# Altium schematic symbol library 2230_TubePitotDeporte_Library_v1.0.0.SchLib: 14 symbols
Pins are listed as number, name and electrical type; pins without a type are passive.

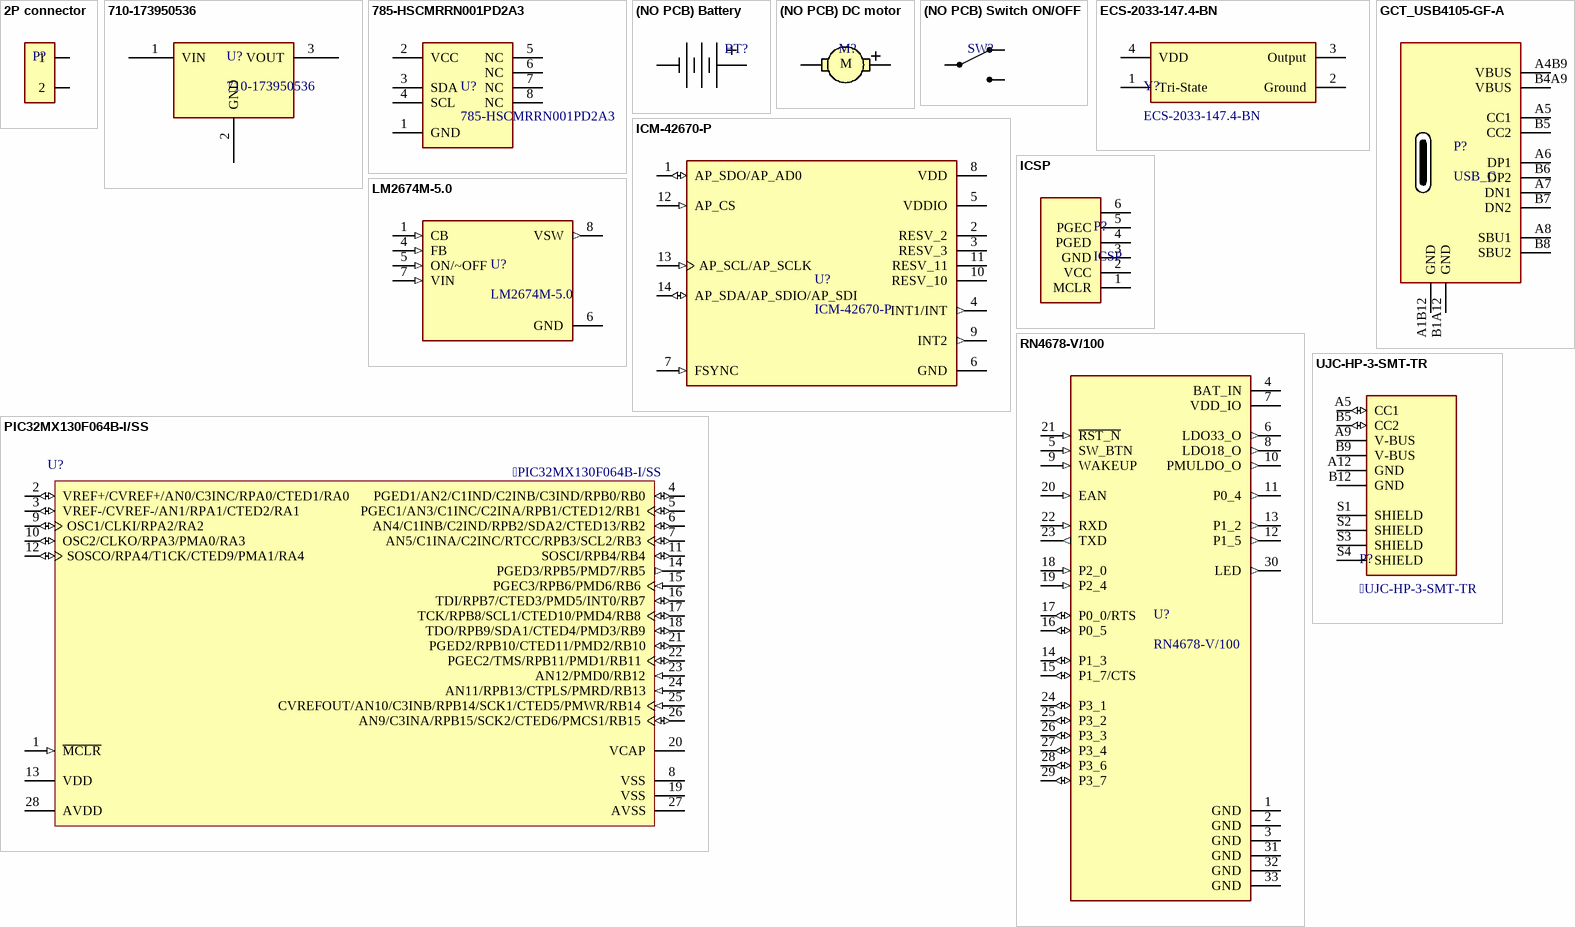
[diagram p0: symbols 2P connector to UJC-HP-3-SMT-TR]

## 2P connector
designator P?
pins: 1, 2

## 710-173950536
designator U?
Buck 5V
pins: 1 VIN, 2 GND, 3 VOUT

## 785-HSCMRRN001PD2A3
designator U?
pins: 1 GND, 2 VCC, 3 SDA, 4 SCL, 5 NC, 6 NC, 7 NC, 8 NC

## (NO PCB) Battery
designator BT?  (value not drawn)

## (NO PCB) DC motor
designator M?  (value not drawn)
text: M

## (NO PCB) Switch ON/OFF
designator SW?  (value not drawn)

## ECS-2033-147.4-BN
designator Y?
pins: 1 Tri-State, 2 Ground (power), 3 Output, 4 VDD (power)

## GCT_USB4105-GF-A
designator P?, comment USB_C
USB C
pins: A1B12 GND, A4B9 VBUS, A5 CC1, A6 DP1, A7 DN1, A8 SBU1, B1A12 GND, B4A9 VBUS, B5 CC2, B6 DP2, B7 DN2, B8 SBU2

## ICM-42670-P
designator U?
6 axis IMU
pins: 1 AP_SDO/AP_AD0 (io), 2 RESV_2, 3 RESV_3, 4 INT1/INT (out), 5 VDDIO (power), 6 GND (power), 7 FSYNC (in), 8 VDD (power), 9 INT2 (out), 10 RESV_10, 11 RESV_11, 12 AP_CS (in), 13 AP_SCL/AP_SCLK (in), 14 AP_SDA/AP_SDIO/AP_SDI (io)

## ICSP
designator P?
pins: 1 MCLR, 2 VCC, 3 GND, 4 PGED, 5 PGEC, 6

## LM2674M-5.0
designator U?
pins: 1 CB (in), 4 FB (in), 5 ON/~OFF (in), 6 GND (power), 7 VIN (in), 8 VSW (out)

## PIC32MX130F064B-I/SS
designator U?
pins: 1 ~{MCLR} (in) "Master Clear (Reset) input. This pin is an active-low Reset to the device", 2 VREF+/CVREF+/AN0/C3INC/RPA0/CTED1/RA0 (io), 3 VREF-/CVREF-/AN1/RPA1/CTED2/RA1 (io), 4 PGED1/AN2/C1IND/C2INB/C3IND/RPB0/RB0 (io), 5 PGEC1/AN3/C1INC/C2INA/RPB1/CTED12/RB1 (io), 6 AN4/C1INB/C2IND/RPB2/SDA2/CTED13/RB2 (io), 7 AN5/C1INA/C2INC/RTCC/RPB3/SCL2/RB3 (io), 8 VSS (power) "Ground reference for logic and I/O pins. This pin must be connected at all times.", 9 OSC1/CLKI/RPA2/RA2 (io), 10 OSC2/CLKO/RPA3/PMA0/RA3 (io), 11 SOSCI/RPB4/RB4 (io), 12 SOSCO/RPA4/T1CK/CTED9/PMA1/RA4 (io), 13 VDD (power) "Positive supply for peripheral logic and I/O pins", 14 PGED3/RPB5/PMD7/RB5 (out), 15 PGEC3/RPB6/PMD6/RB6 (in), 16 TDI/RPB7/CTED3/PMD5/INT0/RB7 (io), 17 TCK/RPB8/SCL1/CTED10/PMD4/RB8 (io), 18 TDO/RPB9/SDA1/CTED4/PMD3/RB9 (io), 19 VSS (power) "Ground reference for logic and I/O pins. This pin must be connected at all times.", 20 VCAP "CPU logic filter capacitor connection", 21 PGED2/RPB10/CTED11/PMD2/RB10 (io), 22 PGEC2/TMS/RPB11/PMD1/RB11 (io), 23 AN12/PMD0/RB12 (in), 24 AN11/RPB13/CTPLS/PMRD/RB13 (in), 25 CVREFOUT/AN10/C3INB/RPB14/SCK1/CTED5/PMWR/RB14 (in), 26 AN9/C3INA/RPB15/SCK2/CTED6/PMCS1/RB15 (io), 27 AVSS (power) "Ground reference for analog modules", 28 AVDD (power) "Positive supply for analog modules. This pin must be connected at all times"

## RN4678-V/100
designator U?
Bluetooth Bluetooth v5.0 Transceiver Module 2.4GHz Integrated, Chip Surface Mount
pins: 1 GND (power), 2 GND (power), 3 GND (power), 4 BAT_IN (power), 5 SW_BTN (in), 6 LDO33_O (out), 7 VDD_IO (power), 8 LDO18_O (out), 9 WAKEUP (in), 10 PMULDO_O (out), 11 P0_4 (out), 12 P1_5 (out), 13 P1_2 (out), 14 P1_3 (io), 15 P1_7/CTS (io), 16 P0_5 (io), 17 P0_0/RTS (io), 18 P2_0 (in), 19 P2_4 (in), 20 EAN (in), 21 ~{RST_N} (in), 22 RXD (in), 23 TXD (out), 24 P3_1 (io), 25 P3_2 (io), 26 P3_3 (io), 27 P3_4 (io), 28 P3_6 (io), 29 P3_7 (io), 30 LED (out), 31 GND (power), 32 GND (power), 33 GND (power)

## UJC-HP-3-SMT-TR
designator P?, comment UJC-HP-3-SMT-TR
footprint UJC-HP-3-SMT-TR
pins: A5 CC1 (io), A9 V-BUS (power), A12 GND (power), B5 CC2 (io), B9 V-BUS (power), B12 GND (power), S1 SHIELD, S2 SHIELD, S3 SHIELD, S4 SHIELD